# EAGLE library part 10118242 (library con-fci)
HDMI TYPE-D RECEPTACLE
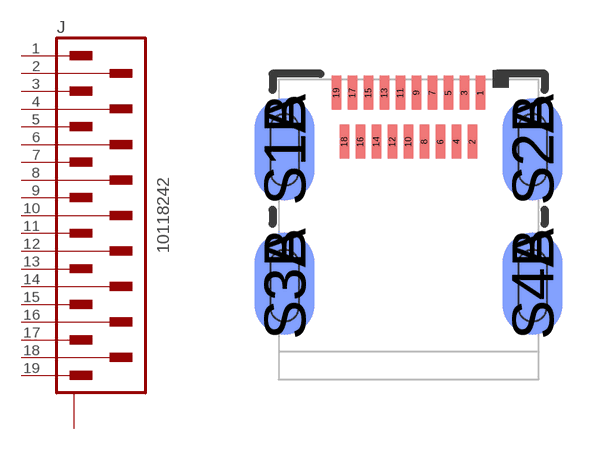
[diagram p7: symbol with the pads of 10118242; footprint 10118242]

Designator prefix J

## 10118242  [10118242]
1  1
2  2
3  3
4  4
5  5
6  6
7  7
8  8
9  9
10  10
11  11
12  12
13  13
14  14
15  15
16  16
17  17
18  18
19  19
S1A  20
S1B  20
S2A  20
S2B  20
S3A  20
S3B  20
S4A  20
S4B  20

## Footprint 10118242 (pad centres in mm)
HDMI RECEPTACLE 19 POS SMT R/A
smd 0.23 x 0.85: 1 1.8,6.475; 2 1.6,5.25; 3 1.4,6.475; 4 1.2,5.25; 5 1,6.475; 6 0.8,5.25; 7 0.6,6.475; 8 0.4,5.25; 9 0.2,6.475; 10 0,5.25; 11 -0.2,6.475; 12 -0.4,5.25; 13 -0.6,6.475; 14 -0.8,5.25; 15 -1,6.475; 16 -1.2,5.25; 17 -1.4,6.475; 18 -1.6,5.25; 19 -1.8,6.475
smd 1.5 x 2.55: S1A -3.1,5.06; S2A 3.1,5.06; S3A -3.1,1.7; S4A 3.1,1.7
smd 1.5 x 2.55 bottom: S1B -3.1,5.06; S2B 3.1,5.06; S3B -3.1,1.7; S4B 3.1,1.7